# Altium schematic symbol library AMS1117.Schlib: 1 symbol
Pins are listed as number, name and electrical type; pins without a type are passive.

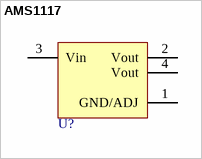
[diagram p0: symbol AMS1117]

## AMS1117
designator U?
18V input, 1.5Amp Linear Voltage Regulator
pins: 1 GND/ADJ (power), 2 Vout (power), 3 Vin (power), 4 Vout (power)